# Altium schematic symbol library SCH - MOSFETS - NMOS-TO220.SCHLIB: 1 symbol
Pins are listed as number, name and electrical type; pins without a type are passive.

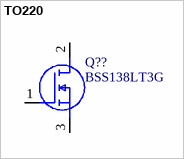
[diagram p0: symbol TO220]

## TO220
designator Q??, comment BSS138LT3G
MOSFET (N-Channel)
pins: 1 G, 2 D, 3 S